# Altium footprint library Varistor.PcbLib: 102 footprints (part 3 of 7)
Each footprint in its own frame and in the unit in brackets; x right, y up, seen from the top. Pads: shape width x height; smd on the part's side, far side on the other; paste and mask are expansions set on the pad; w line width, h text height; cw(c..) or ccw(c..) is an arc to the next point about the centre after c.
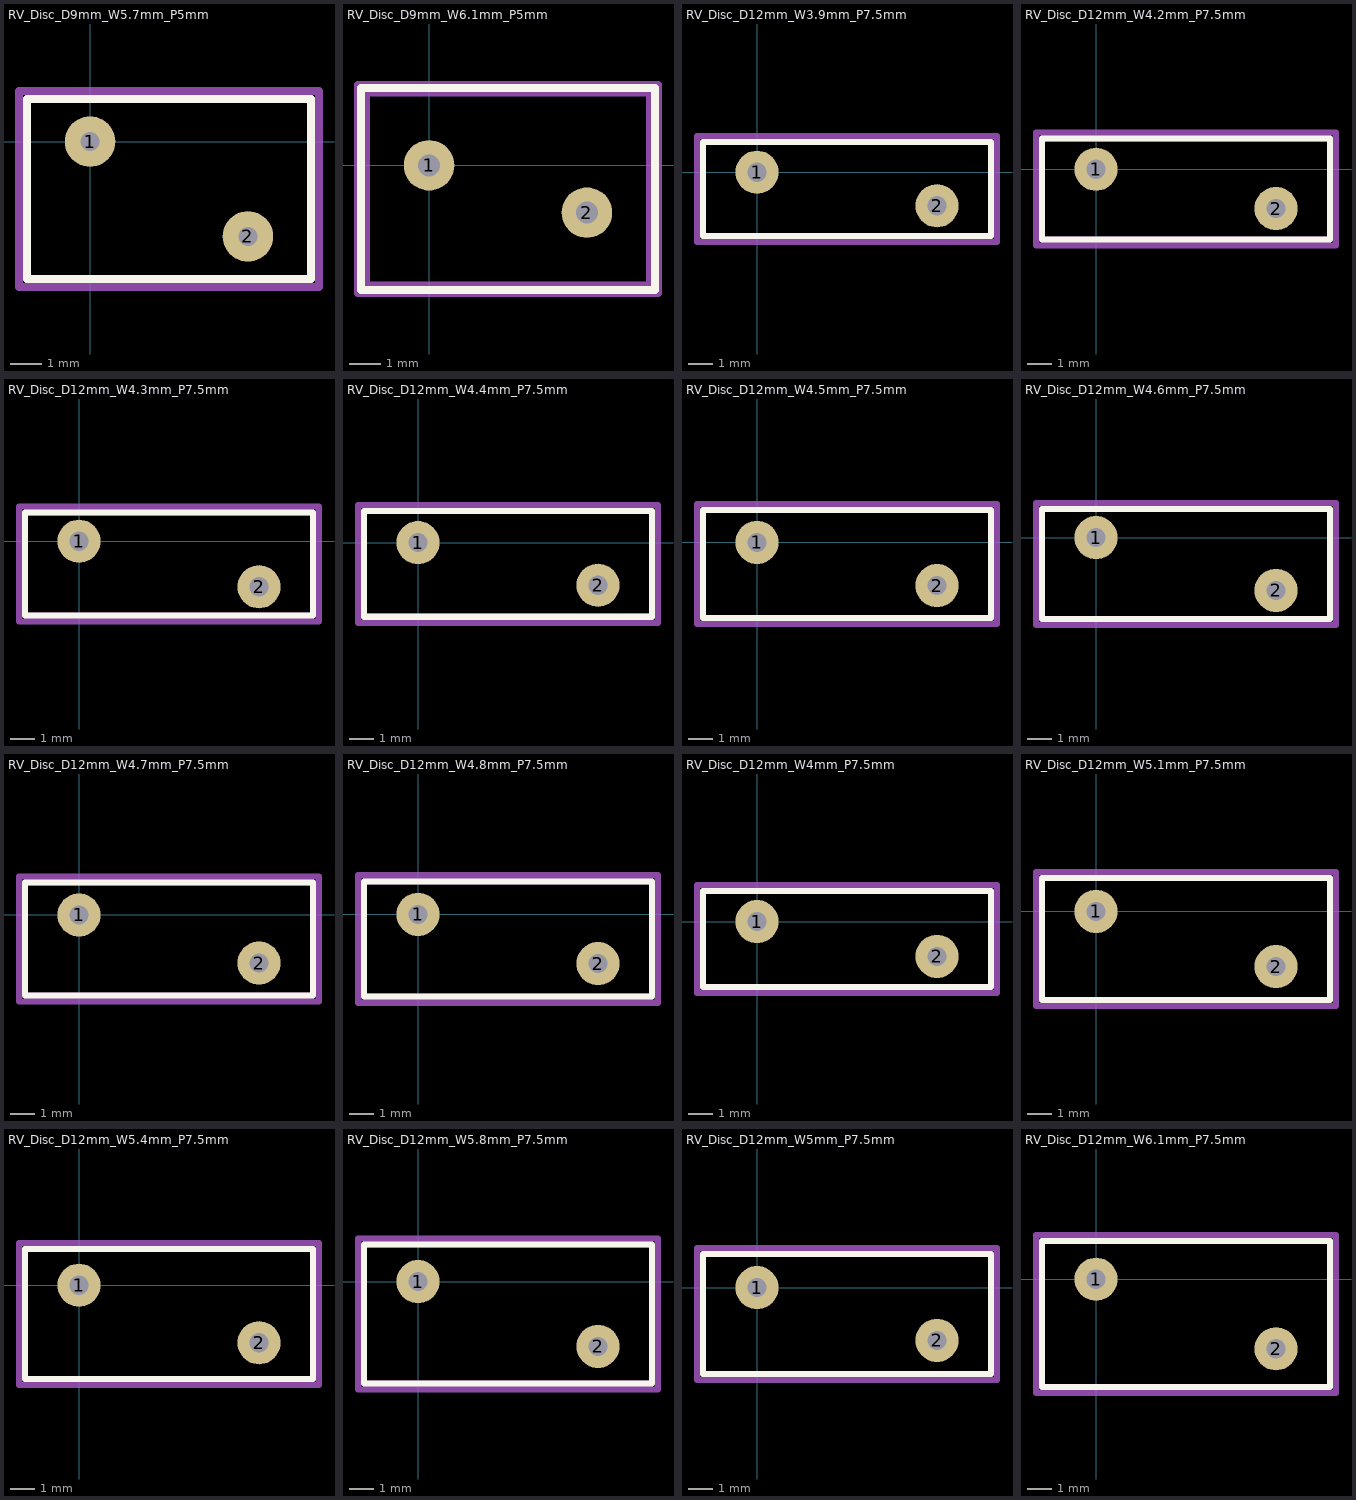
[diagram p2: the footprints below, top view; thin cyan lines are the x and y axes]

## RV_Disc_D9mm_W5.7mm_P5mm [mm]
pads (2):
  round 1.6 hole 0.6: 1(0,0) 2(5,-3)
F.SilkS:
  lines w0.254: -2,-4.35 -2,1.35 7,1.35 7,-4.35 -2,-4.35
F.Fab:
  lines w0.254: -2,-4.35 -2,1.35 7,1.35 7,-4.35 -2,-4.35
  text "'.Designator'" at -1.547,-2.34 h1
F.CrtYd:
  lines w0.254: -2.25,-4.6 -2.25,1.6 7.25,1.6 7.25,-4.6 -2.25,-4.6
3D body "RV_Disc_D9mm_W5.7mm_P5mm.step": height 9.03, standoff -3, extent -2,-4.35 7,1.35

## RV_Disc_D9mm_W6.1mm_P5mm [mm]
pads (2):
  round 1.6 hole 0.7: 1(0,0) 2(5,-1.5)
F.SilkS:
  lines w0.254: -2.15,-3.95 -2.15,2.45 7.15,2.45 7.15,-3.95 -2.15,-3.95
F.Fab:
  lines w0.254: -2,-3.8 -2,2.3 7,2.3 7,-3.8 -2,-3.8
  text "'.Designator'" at -1.547,-1.59 h1
F.CrtYd:
  lines w0.254: -2.25,-4.05 -2.25,2.55 7.25,2.55 7.25,-4.05 -2.25,-4.05
3D body "RV_Disc_D9mm_W6.1mm_P5mm.step": height 9.03, standoff -3, extent -2,-3.8 7,2.3

## RV_Disc_D12mm_W3.9mm_P7.5mm [mm]
pads (2):
  round 1.8 hole 0.8: 1(0,0) 2(7.5,-1.4)
F.SilkS:
  lines w0.254: -2.25,-2.65 -2.25,1.25 9.75,1.25 9.75,-2.65 -2.25,-2.65
F.Fab:
  lines w0.254: -2.25,-2.65 -2.25,1.25 9.75,1.25 9.75,-2.65 -2.25,-2.65
  text "'.Designator'" at -0.297,-1.54 h1
F.CrtYd:
  lines w0.254: -2.5,-2.9 -2.5,1.5 10,1.5 10,-2.9 -2.5,-2.9
3D body "RV_Disc_D12mm_W3.9mm_P7.5mm.step": height 12.03, standoff -3, extent -2.25,-2.65 9.75,1.25

## RV_Disc_D12mm_W4.2mm_P7.5mm [mm]
pads (2):
  round 1.8 hole 0.8: 1(0,0) 2(7.5,-1.633)
F.SilkS:
  lines w0.254: -2.25,-2.917 -2.25,1.283 9.75,1.283 9.75,-2.917 -2.25,-2.917
F.Fab:
  lines w0.254: -2.25,-2.917 -2.25,1.283 9.75,1.283 9.75,-2.917 -2.25,-2.917
  text "'.Designator'" at -0.297,-1.657 h1
F.CrtYd:
  lines w0.254: -2.5,-3.17 -2.5,1.53 10,1.53 10,-3.17 -2.5,-3.17
3D body "RV_Disc_D12mm_W4.2mm_P7.5mm.step": height 12.03, standoff -3, extent -2.25,-2.917 9.75,1.283

## RV_Disc_D12mm_W4.3mm_P7.5mm [mm]
pads (2):
  round 1.8 hole 0.8: 1(0,0) 2(7.5,-1.9)
F.SilkS:
  lines w0.254: -2.25,-3.1 -2.25,1.2 9.75,1.2 9.75,-3.1 -2.25,-3.1
F.Fab:
  lines w0.254: -2.25,-3.1 -2.25,1.2 9.75,1.2 9.75,-3.1 -2.25,-3.1
  text "'.Designator'" at -0.297,-1.79 h1
F.CrtYd:
  lines w0.254: -2.5,-3.35 -2.5,1.45 10,1.45 10,-3.35 -2.5,-3.35
3D body "RV_Disc_D12mm_W4.3mm_P7.5mm.step": height 12.03, standoff -3, extent -2.25,-3.1 9.75,1.2

## RV_Disc_D12mm_W4.4mm_P7.5mm [mm]
pads (2):
  round 1.8 hole 0.8: 1(0,0) 2(7.5,-1.775)
F.SilkS:
  lines w0.254: -2.25,-3.087 -2.25,1.312 9.75,1.312 9.75,-3.087 -2.25,-3.087
F.Fab:
  lines w0.254: -2.25,-3.087 -2.25,1.312 9.75,1.312 9.75,-3.087 -2.25,-3.087
  text "'.Designator'" at -0.297,-1.727 h1
F.CrtYd:
  lines w0.254: -2.5,-3.34 -2.5,1.56 10,1.56 10,-3.34 -2.5,-3.34
3D body "RV_Disc_D12mm_W4.4mm_P7.5mm.step": height 12.03, standoff -3, extent -2.25,-3.087 9.75,1.312

## RV_Disc_D12mm_W4.5mm_P7.5mm [mm]
pads (2):
  round 1.8 hole 0.8: 1(0,0) 2(7.5,-1.8)
F.SilkS:
  lines w0.254: -2.25,-3.15 -2.25,1.35 9.75,1.35 9.75,-3.15 -2.25,-3.15
F.Fab:
  lines w0.254: -2.25,-3.15 -2.25,1.35 9.75,1.35 9.75,-3.15 -2.25,-3.15
  text "'.Designator'" at -0.297,-1.74 h1
F.CrtYd:
  lines w0.254: -2.5,-3.4 -2.5,1.6 10,1.6 10,-3.4 -2.5,-3.4
3D body "RV_Disc_D12mm_W4.5mm_P7.5mm.step": height 12.03, standoff -3, extent -2.25,-3.15 9.75,1.35

## RV_Disc_D12mm_W4.6mm_P7.5mm [mm]
pads (2):
  round 1.8 hole 0.8: 1(0,0) 2(7.5,-2.2)
F.SilkS:
  lines w0.254: -2.25,-3.4 -2.25,1.2 9.75,1.2 9.75,-3.4 -2.25,-3.4
F.Fab:
  lines w0.254: -2.25,-3.4 -2.25,1.2 9.75,1.2 9.75,-3.4 -2.25,-3.4
  text "'.Designator'" at -0.297,-1.94 h1
F.CrtYd:
  lines w0.254: -2.5,-3.65 -2.5,1.45 10,1.45 10,-3.65 -2.5,-3.65
3D body "RV_Disc_D12mm_W4.6mm_P7.5mm.step": height 12.03, standoff -3, extent -2.25,-3.4 9.75,1.2

## RV_Disc_D12mm_W4.7mm_P7.5mm [mm]
pads (2):
  round 1.8 hole 0.8: 1(0,0) 2(7.5,-2)
F.SilkS:
  lines w0.254: -2.25,-3.35 -2.25,1.35 9.75,1.35 9.75,-3.35 -2.25,-3.35
F.Fab:
  lines w0.254: -2.25,-3.35 -2.25,1.35 9.75,1.35 9.75,-3.35 -2.25,-3.35
  text "'.Designator'" at -0.297,-1.84 h1
F.CrtYd:
  lines w0.254: -2.5,-3.6 -2.5,1.6 10,1.6 10,-3.6 -2.5,-3.6
3D body "RV_Disc_D12mm_W4.7mm_P7.5mm.step": height 12.03, standoff -3, extent -2.25,-3.35 9.75,1.35

## RV_Disc_D12mm_W4.8mm_P7.5mm [mm]
pads (2):
  round 1.8 hole 0.8: 1(0,0) 2(7.5,-2.05)
F.SilkS:
  lines w0.254: -2.25,-3.425 -2.25,1.375 9.75,1.375 9.75,-3.425 -2.25,-3.425
F.Fab:
  lines w0.254: -2.25,-3.425 -2.25,1.375 9.75,1.375 9.75,-3.425 -2.25,-3.425
  text "'.Designator'" at -0.297,-1.865 h1
F.CrtYd:
  lines w0.254: -2.5,-3.68 -2.5,1.63 10,1.63 10,-3.68 -2.5,-3.68
3D body "RV_Disc_D12mm_W4.8mm_P7.5mm.step": height 12.03, standoff -3, extent -2.25,-3.425 9.75,1.375

## RV_Disc_D12mm_W4mm_P7.5mm [mm]
pads (2):
  round 1.8 hole 0.8: 1(0,0) 2(7.5,-1.45)
F.SilkS:
  lines w0.254: -2.25,-2.725 -2.25,1.275 9.75,1.275 9.75,-2.725 -2.25,-2.725
F.Fab:
  lines w0.254: -2.25,-2.725 -2.25,1.275 9.75,1.275 9.75,-2.725 -2.25,-2.725
  text "'.Designator'" at -0.297,-1.565 h1
F.CrtYd:
  lines w0.254: -2.5,-2.98 -2.5,1.53 10,1.53 10,-2.98 -2.5,-2.98
3D body "RV_Disc_D12mm_W4mm_P7.5mm.step": height 12.03, standoff -3, extent -2.25,-2.725 9.75,1.275

## RV_Disc_D12mm_W5.1mm_P7.5mm [mm]
pads (2):
  round 1.8 hole 0.8: 1(0,0) 2(7.5,-2.3)
F.SilkS:
  lines w0.254: -2.25,-3.7 -2.25,1.4 9.75,1.4 9.75,-3.7 -2.25,-3.7
F.Fab:
  lines w0.254: -2.25,-3.7 -2.25,1.4 9.75,1.4 9.75,-3.7 -2.25,-3.7
  text "'.Designator'" at -0.297,-1.99 h1
F.CrtYd:
  lines w0.254: -2.5,-3.95 -2.5,1.65 10,1.65 10,-3.95 -2.5,-3.95
3D body "RV_Disc_D12mm_W5.1mm_P7.5mm.step": height 12.03, standoff -3, extent -2.25,-3.7 9.75,1.4

## RV_Disc_D12mm_W5.4mm_P7.5mm [mm]
pads (2):
  round 1.8 hole 0.8: 1(0,0) 2(7.5,-2.4)
F.SilkS:
  lines w0.254: -2.25,-3.9 -2.25,1.5 9.75,1.5 9.75,-3.9 -2.25,-3.9
F.Fab:
  lines w0.254: -2.25,-3.9 -2.25,1.5 9.75,1.5 9.75,-3.9 -2.25,-3.9
  text "'.Designator'" at -0.297,-2.04 h1
F.CrtYd:
  lines w0.254: -2.5,-4.15 -2.5,1.75 10,1.75 10,-4.15 -2.5,-4.15
3D body "RV_Disc_D12mm_W5.4mm_P7.5mm.step": height 12.03, standoff -3, extent -2.25,-3.9 9.75,1.5

## RV_Disc_D12mm_W5.8mm_P7.5mm [mm]
pads (2):
  round 1.8 hole 0.8: 1(0,0) 2(7.5,-2.7)
F.SilkS:
  lines w0.254: -2.25,-4.25 -2.25,1.55 9.75,1.55 9.75,-4.25 -2.25,-4.25
F.Fab:
  lines w0.254: -2.25,-4.25 -2.25,1.55 9.75,1.55 9.75,-4.25 -2.25,-4.25
  text "'.Designator'" at -0.297,-2.19 h1
F.CrtYd:
  lines w0.254: -2.5,-4.5 -2.5,1.8 10,1.8 10,-4.5 -2.5,-4.5
3D body "RV_Disc_D12mm_W5.8mm_P7.5mm.step": height 12.03, standoff -3, extent -2.25,-4.25 9.75,1.55

## RV_Disc_D12mm_W5mm_P7.5mm [mm]
pads (2):
  round 1.8 hole 0.8: 1(0,0) 2(7.5,-2.2)
F.SilkS:
  lines w0.254: -2.25,-3.6 -2.25,1.4 9.75,1.4 9.75,-3.6 -2.25,-3.6
F.Fab:
  lines w0.254: -2.25,-3.6 -2.25,1.4 9.75,1.4 9.75,-3.6 -2.25,-3.6
  text "'.Designator'" at -0.297,-1.94 h1
F.CrtYd:
  lines w0.254: -2.5,-3.85 -2.5,1.65 10,1.65 10,-3.85 -2.5,-3.85
3D body "RV_Disc_D12mm_W5mm_P7.5mm.step": height 12.03, standoff -3, extent -2.25,-3.6 9.75,1.4

## RV_Disc_D12mm_W6.1mm_P7.5mm [mm]
pads (2):
  round 1.8 hole 0.8: 1(0,0) 2(7.5,-2.9)
F.SilkS:
  lines w0.254: -2.25,-4.5 -2.25,1.6 9.75,1.6 9.75,-4.5 -2.25,-4.5
F.Fab:
  lines w0.254: -2.25,-4.5 -2.25,1.6 9.75,1.6 9.75,-4.5 -2.25,-4.5
  text "'.Designator'" at -0.297,-2.29 h1
F.CrtYd:
  lines w0.254: -2.5,-4.75 -2.5,1.85 10,1.85 10,-4.75 -2.5,-4.75
3D body "RV_Disc_D12mm_W6.1mm_P7.5mm.step": height 12.03, standoff -3, extent -2.25,-4.5 9.75,1.6